# Altium footprint library FQFP (0.5mm Pitch, Square) - Corner Index.PcbLib: 53 footprints (part 5 of 5)
Each footprint in its own frame and in the unit in brackets; x right, y up, seen from the top. Pads: shape width x height; smd on the part's side, far side on the other; paste and mask are expansions set on the pad; w line width, h text height; cw(c..) or ccw(c..) is an arc to the next point about the centre after c.
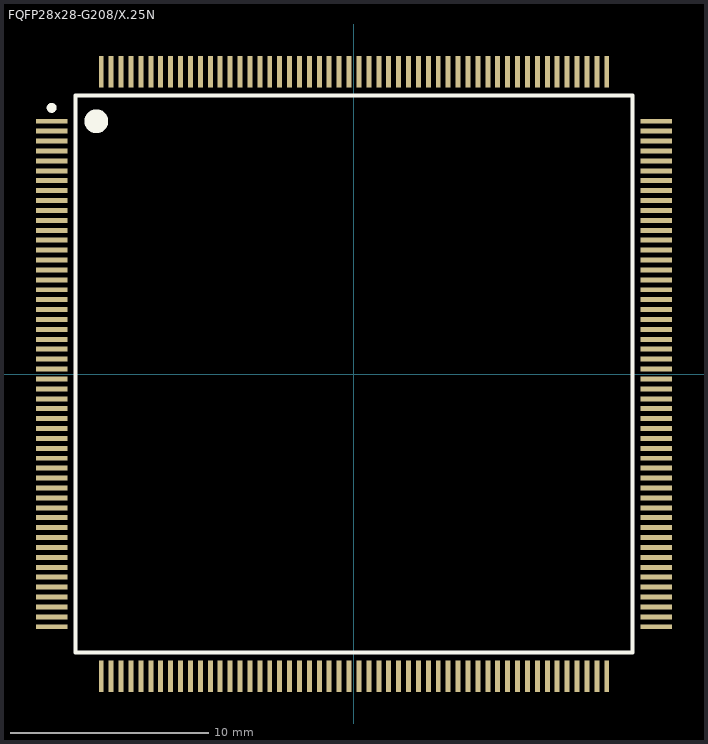
[diagram p4: the footprint, top view; thin cyan lines are the x and y axes]

## FQFP28x28-G208/X.25N [mm]
pads (208):
  rect 1.6x0.25 smd: 1(-15.25,12.75) 2(-15.25,12.25) 3(-15.25,11.75) 4(-15.25,11.25) 5(-15.25,10.75) 6(-15.25,10.25) 7(-15.25,9.75) 8(-15.25,9.25) 9(-15.25,8.75) 10(-15.25,8.25) 11(-15.25,7.75) 12(-15.25,7.25) 13(-15.25,6.75) 14(-15.25,6.25) 15(-15.25,5.75) 16(-15.25,5.25) 17(-15.25,4.75) 18(-15.25,4.25) 19(-15.25,3.75) 20(-15.25,3.25) 21(-15.25,2.75) 22(-15.25,2.25) 23(-15.25,1.75) 24(-15.25,1.25) 25(-15.25,0.75) 26(-15.25,0.25) 27(-15.25,-0.25) 28(-15.25,-0.75) 29(-15.25,-1.25) 30(-15.25,-1.75) 31(-15.25,-2.25) 32(-15.25,-2.75) 33(-15.25,-3.25) 34(-15.25,-3.75) 35(-15.25,-4.25) 36(-15.25,-4.75) 37(-15.25,-5.25) 38(-15.25,-5.75) 39(-15.25,-6.25) 40(-15.25,-6.75) 41(-15.25,-7.25) 42(-15.25,-7.75) 43(-15.25,-8.25) 44(-15.25,-8.75) 45(-15.25,-9.25) 46(-15.25,-9.75) 47(-15.25,-10.25) 48(-15.25,-10.75) 49(-15.25,-11.25) 50(-15.25,-11.75) 51(-15.25,-12.25) 52(-15.25,-12.75) 105(15.25,-12.75) 106(15.25,-12.25) 107(15.25,-11.75) 108(15.25,-11.25) 109(15.25,-10.75) 110(15.25,-10.25) 111(15.25,-9.75) 112(15.25,-9.25) 113(15.25,-8.75) 114(15.25,-8.25) 115(15.25,-7.75) 116(15.25,-7.25) 117(15.25,-6.75) 118(15.25,-6.25) 119(15.25,-5.75) 120(15.25,-5.25) 121(15.25,-4.75) 122(15.25,-4.25) 123(15.25,-3.75) 124(15.25,-3.25) 125(15.25,-2.75) 126(15.25,-2.25) 127(15.25,-1.75) 128(15.25,-1.25) 129(15.25,-0.75) 130(15.25,-0.25) 131(15.25,0.25) 132(15.25,0.75) 133(15.25,1.25) 134(15.25,1.75) 135(15.25,2.25) 136(15.25,2.75) 137(15.25,3.25) 138(15.25,3.75) 139(15.25,4.25) 140(15.25,4.75) 141(15.25,5.25) 142(15.25,5.75) 143(15.25,6.25) 144(15.25,6.75) 145(15.25,7.25) 146(15.25,7.75) 147(15.25,8.25) 148(15.25,8.75) 149(15.25,9.25) 150(15.25,9.75) 151(15.25,10.25) 152(15.25,10.75) 153(15.25,11.25) 154(15.25,11.75) 155(15.25,12.25) 156(15.25,12.75)
  rect 0.25x1.6 smd: 53(-12.75,-15.25) 54(-12.25,-15.25) 55(-11.75,-15.25) 56(-11.25,-15.25) 57(-10.75,-15.25) 58(-10.25,-15.25) 59(-9.75,-15.25) 60(-9.25,-15.25) 61(-8.75,-15.25) 62(-8.25,-15.25) 63(-7.75,-15.25) 64(-7.25,-15.25) 65(-6.75,-15.25) 66(-6.25,-15.25) 67(-5.75,-15.25) 68(-5.25,-15.25) 69(-4.75,-15.25) 70(-4.25,-15.25) 71(-3.75,-15.25) 72(-3.25,-15.25) 73(-2.75,-15.25) 74(-2.25,-15.25) 75(-1.75,-15.25) 76(-1.25,-15.25) 77(-0.75,-15.25) 78(-0.25,-15.25) 79(0.25,-15.25) 80(0.75,-15.25) 81(1.25,-15.25) 82(1.75,-15.25) 83(2.25,-15.25) 84(2.75,-15.25) 85(3.25,-15.25) 86(3.75,-15.25) 87(4.25,-15.25) 88(4.75,-15.25) 89(5.25,-15.25) 90(5.75,-15.25) 91(6.25,-15.25) 92(6.75,-15.25) 93(7.25,-15.25) 94(7.75,-15.25) 95(8.25,-15.25) 96(8.75,-15.25) 97(9.25,-15.25) 98(9.75,-15.25) 99(10.25,-15.25) 100(10.75,-15.25) 101(11.25,-15.25) 102(11.75,-15.25) 103(12.25,-15.25) 104(12.75,-15.25) 157(12.75,15.25) 158(12.25,15.25) 159(11.75,15.25) 160(11.25,15.25) 161(10.75,15.25) 162(10.25,15.25) 163(9.75,15.25) 164(9.25,15.25) 165(8.75,15.25) 166(8.25,15.25) 167(7.75,15.25) 168(7.25,15.25) 169(6.75,15.25) 170(6.25,15.25) 171(5.75,15.25) 172(5.25,15.25) 173(4.75,15.25) 174(4.25,15.25) 175(3.75,15.25) 176(3.25,15.25) 177(2.75,15.25) 178(2.25,15.25) 179(1.75,15.25) 180(1.25,15.25) 181(0.75,15.25) 182(0.25,15.25) 183(-0.25,15.25) 184(-0.75,15.25) 185(-1.25,15.25) 186(-1.75,15.25) 187(-2.25,15.25) 188(-2.75,15.25) 189(-3.25,15.25) 190(-3.75,15.25) 191(-4.25,15.25) 192(-4.75,15.25) 193(-5.25,15.25) 194(-5.75,15.25) 195(-6.25,15.25) 196(-6.75,15.25) 197(-7.25,15.25) 198(-7.75,15.25) 199(-8.25,15.25) 200(-8.75,15.25) 201(-9.25,15.25) 202(-9.75,15.25) 203(-10.25,15.25) 204(-10.75,15.25) 205(-11.25,15.25) 206(-11.75,15.25) 207(-12.25,15.25) 208(-12.75,15.25)
Top Overlay:
  circle w0.25: c-15.25,13.425 r0.125
  circle w0.6: c-13,12.75 r0.3
  lines w0.2: -14.05,-14.05 -14.05,14.05 14.05,14.05 14.05,-14.05 -14.05,-14.05